# EAGLE library part MACHXO2-FPGA (library 6502-shield)
Lattice Semiconductors MachXO2 FPGA (256/640/1200/2280 LUTs) 1.2/1.8/2.5/3.3 VDC
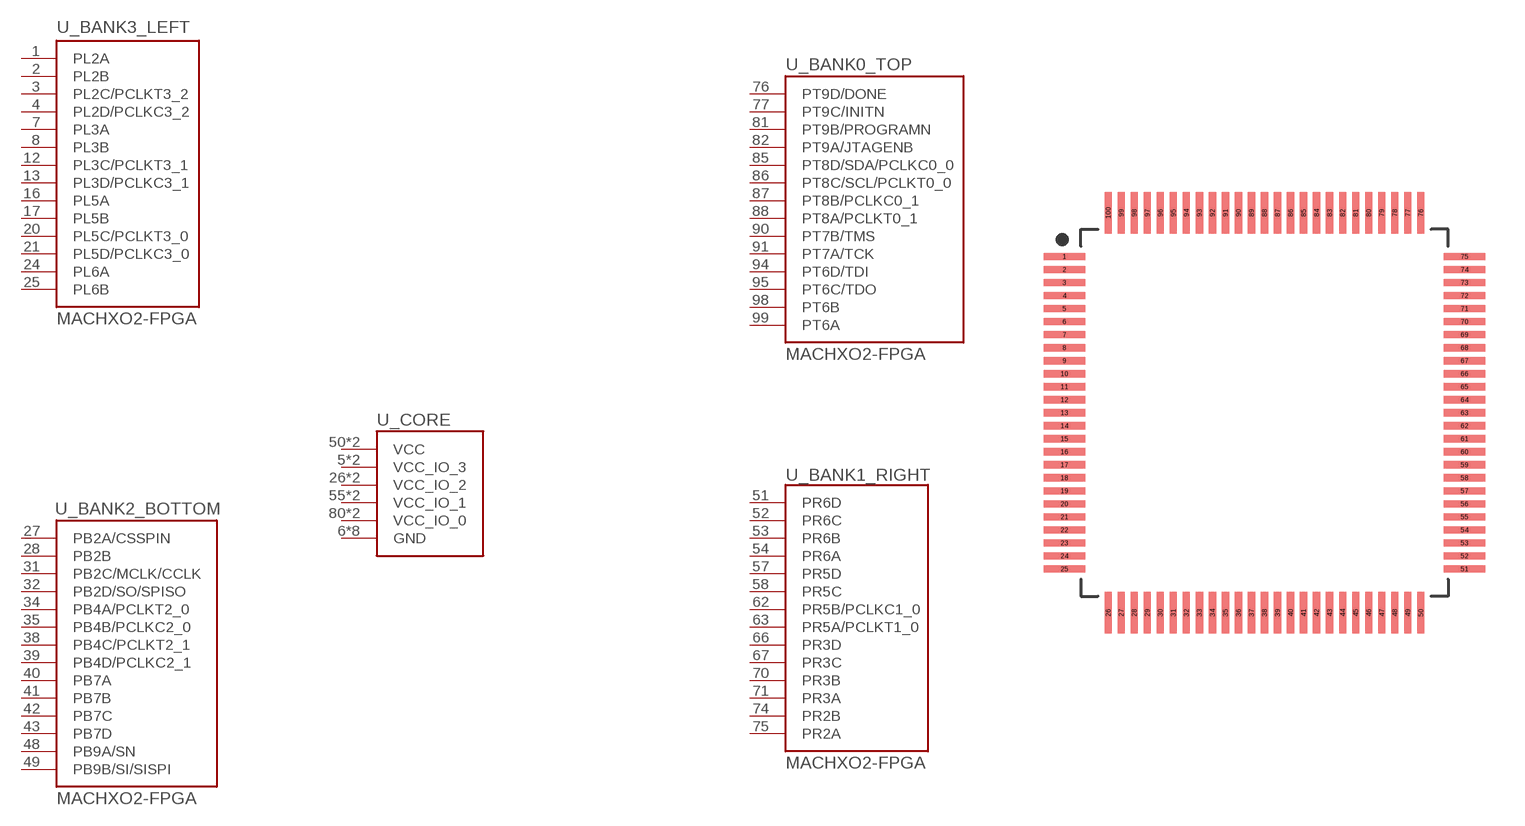
[diagram p11: symbol with the pads of QFP50P1600X1600X160-100N; footprint QFP50P1600X1600X160-100N]

Designator prefix U; gates _CORE=LCMXO256-FPGA-CORE-100TQFP _BANK0_TOP=LCMXO256-FPGA-BANK0-TOP-100TQFP _BANK1_RIGHT=LCMXO256-FPGA-BANK0-RIGHT-100TQFP _BANK3_LEFT=LCMXO256-FPGA-BANK1-LEFT-100TQFP _BANK2_BOTTOM=LCMXO256-FPGA-BANK1-BOTTOM-100TQFP

## MACHXO2-FPGA100TQFP  [QFP50P1600X1600X160-100N]
1  _BANK3_LEFT:PL2A
2  _BANK3_LEFT:PL2B
3  _BANK3_LEFT:PL2C/PCLKT3_2
4  _BANK3_LEFT:PL2D/PCLKC3_2
5  _CORE:VCC_IO_3
6  _CORE:GND
7  _BANK3_LEFT:PL3A
8  _BANK3_LEFT:PL3B
12  _BANK3_LEFT:PL3C/PCLKT3_1
13  _BANK3_LEFT:PL3D/PCLKC3_1
16  _BANK3_LEFT:PL5A
17  _BANK3_LEFT:PL5B
20  _BANK3_LEFT:PL5C/PCLKT3_0
21  _BANK3_LEFT:PL5D/PCLKC3_0
22  _CORE:GND
23  _CORE:VCC_IO_3
24  _BANK3_LEFT:PL6A
25  _BANK3_LEFT:PL6B
26  _CORE:VCC_IO_2
27  _BANK2_BOTTOM:PB2A/CSSPIN
28  _BANK2_BOTTOM:PB2B
31  _BANK2_BOTTOM:PB2C/MCLK/CCLK
32  _BANK2_BOTTOM:PB2D/SO/SPISO
33  _CORE:GND
34  _BANK2_BOTTOM:PB4A/PCLKT2_0
35  _BANK2_BOTTOM:PB4B/PCLKC2_0
38  _BANK2_BOTTOM:PB4C/PCLKT2_1
39  _BANK2_BOTTOM:PB4D/PCLKC2_1
40  _BANK2_BOTTOM:PB7A
41  _BANK2_BOTTOM:PB7B
42  _BANK2_BOTTOM:PB7C
43  _BANK2_BOTTOM:PB7D
44  _CORE:GND
46  _CORE:VCC_IO_2
48  _BANK2_BOTTOM:PB9A/SN
49  _BANK2_BOTTOM:PB9B/SI/SISPI
50  _CORE:VCC
51  _BANK1_RIGHT:PR6D
52  _BANK1_RIGHT:PR6C
53  _BANK1_RIGHT:PR6B
54  _BANK1_RIGHT:PR6A
55  _CORE:VCC_IO_1
56  _CORE:GND
57  _BANK1_RIGHT:PR5D
58  _BANK1_RIGHT:PR5C
62  _BANK1_RIGHT:PR5B/PCLKC1_0
63  _BANK1_RIGHT:PR5A/PCLKT1_0
66  _BANK1_RIGHT:PR3D
67  _BANK1_RIGHT:PR3C
70  _BANK1_RIGHT:PR3B
71  _BANK1_RIGHT:PR3A
72  _CORE:GND
73  _CORE:VCC_IO_1
74  _BANK1_RIGHT:PR2B
75  _BANK1_RIGHT:PR2A
76  _BANK0_TOP:PT9D/DONE
77  _BANK0_TOP:PT9C/INITN
79  _CORE:GND
80  _CORE:VCC_IO_0
81  _BANK0_TOP:PT9B/PROGRAMN
82  _BANK0_TOP:PT9A/JTAGENB
85  _BANK0_TOP:PT8D/SDA/PCLKC0_0
86  _BANK0_TOP:PT8C/SCL/PCLKT0_0
87  _BANK0_TOP:PT8B/PCLKC0_1
88  _BANK0_TOP:PT8A/PCLKT0_1
90  _BANK0_TOP:PT7B/TMS
91  _BANK0_TOP:PT7A/TCK
92  _CORE:GND
93  _CORE:VCC_IO_0
94  _BANK0_TOP:PT6D/TDI
95  _BANK0_TOP:PT6C/TDO
98  _BANK0_TOP:PT6B
99  _BANK0_TOP:PT6A
100  _CORE:VCC

## Footprint QFP50P1600X1600X160-100N (pad centres in mm)
100-QFP, 0.50 mm pitch, 16.00 mm span, 14.00 X 14.00 X 1.60 mm body 100-pin QFP package with 0.50 mm pitch, 16.00 mm lead span1 X 16.00 mm lead span2 with body size 14.00 X 14.00 X 1.60 mm
smd 1.6 x 0.28: 1 -7.681,6; 2 -7.681,5.5; 3 -7.681,5; 4 -7.681,4.5; 5 -7.681,4; 6 -7.681,3.5; 7 -7.681,3; 8 -7.681,2.5; 9 -7.681,2; 10 -7.681,1.5; 11 -7.681,1; 12 -7.681,0.5; 13 -7.681,0; 14 -7.681,-0.5; 15 -7.681,-1; 16 -7.681,-1.5; 17 -7.681,-2; 18 -7.681,-2.5; 19 -7.681,-3; 20 -7.681,-3.5; 21 -7.681,-4; 22 -7.681,-4.5; 23 -7.681,-5; 24 -7.681,-5.5; 25 -7.681,-6; 51 7.681,-6; 52 7.681,-5.5; 53 7.681,-5; 54 7.681,-4.5; 55 7.681,-4; 56 7.681,-3.5; 57 7.681,-3; 58 7.681,-2.5; 59 7.681,-2; 60 7.681,-1.5; 61 7.681,-1; 62 7.681,-0.5; 63 7.681,0; 64 7.681,0.5; 65 7.681,1; 66 7.681,1.5; 67 7.681,2; 68 7.681,2.5; 69 7.681,3; 70 7.681,3.5; 71 7.681,4; 72 7.681,4.5; 73 7.681,5; 74 7.681,5.5; 75 7.681,6
smd 0.28 x 1.6: 26 -6,-7.681; 27 -5.5,-7.681; 28 -5,-7.681; 29 -4.5,-7.681; 30 -4,-7.681; 31 -3.5,-7.681; 32 -3,-7.681; 33 -2.5,-7.681; 34 -2,-7.681; 35 -1.5,-7.681; 36 -1,-7.681; 37 -0.5,-7.681; 38 0,-7.681; 39 0.5,-7.681; 40 1,-7.681; 41 1.5,-7.681; 42 2,-7.681; 43 2.5,-7.681; 44 3,-7.681; 45 3.5,-7.681; 46 4,-7.681; 47 4.5,-7.681; 48 5,-7.681; 49 5.5,-7.681; 50 6,-7.681; 76 6,7.681; 77 5.5,7.681; 78 5,7.681; 79 4.5,7.681; 80 4,7.681; 81 3.5,7.681; 82 3,7.681; 83 2.5,7.681; 84 2,7.681; 85 1.5,7.681; 86 1,7.681; 87 0.5,7.681; 88 0,7.681; 89 -0.5,7.681; 90 -1,7.681; 91 -1.5,7.681; 92 -2,7.681; 93 -2.5,7.681; 94 -3,7.681; 95 -3.5,7.681; 96 -4,7.681; 97 -4.5,7.681; 98 -5,7.681; 99 -5.5,7.681; 100 -6,7.681